# Altium schematic symbol library AD7490BRUZ.Schlib: 1 symbol
Pins are listed as number, name and electrical type; pins without a type are passive.

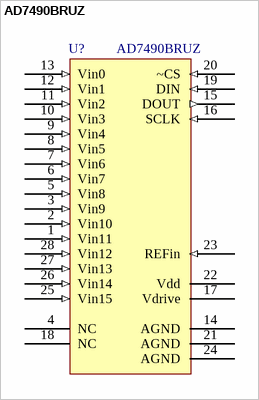
[diagram p0: symbol AD7490BRUZ]

## AD7490BRUZ
designator U?
Назначение: многоканальный АЦП; Наименование: AD7490BRUZ
footprint TSSOP-28
pins: 1 Vin11 (in), 2 Vin10 (in), 3 Vin9 (in), 4 NC (oc), 5 Vin8 (in), 6 Vin7 (in), 7 Vin6 (in), 8 Vin5 (in), 9 Vin4 (in), 10 Vin3 (in), 11 Vin2 (in), 12 Vin1 (in), 13 Vin0 (in), 14 AGND (oc), 15 DOUT (out), 16 SCLK (in), 17 Vdrive (oc), 18 NC (oc), 19 DIN (in), 20 ~CS (in), 21 AGND (oc), 22 Vdd (oc), 23 REFin (in), 24 AGND (oc), 25 Vin15 (in), 26 Vin14 (in), 27 Vin13 (in), 28 Vin12 (in)